# Altium footprint library emi_emc_ferrites.PcbLib: 3 footprints
Each footprint in its own frame and in the unit in brackets; x right, y up, seen from the top. Pads: shape width x height; smd on the part's side, far side on the other; paste and mask are expansions set on the pad; w line width, h text height; cw(c..) or ccw(c..) is an arc to the next point about the centre after c.
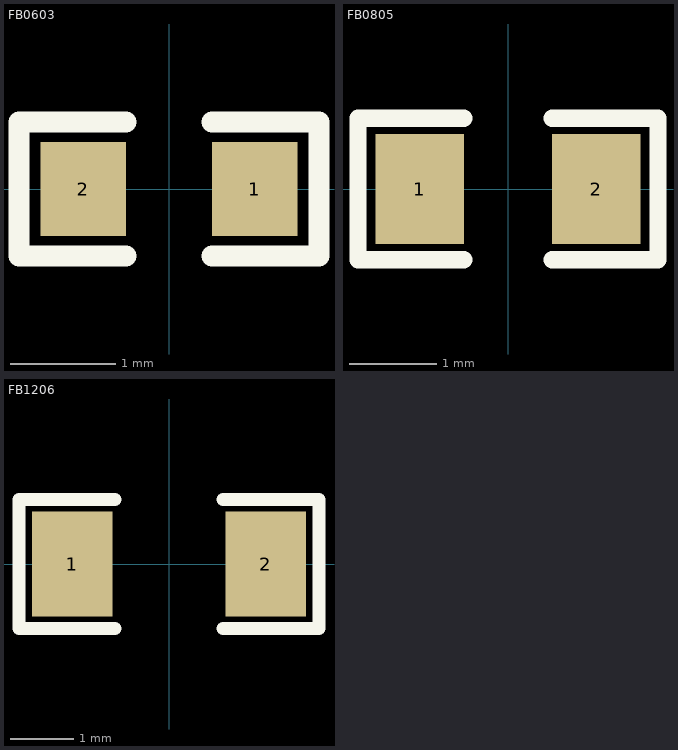
[diagram p0: the footprints below, top view; thin cyan lines are the x and y axes]

## FB0603 [mil]
pads (2):
  rect 32x35 smd: 1(32,0) 2(-32,0)
Top Overlay:
  lines w7.87: -16,-25 -56,-25 -56,25 -16,25 ; 16,-25 56,-25 56,25 16,25
3D body: height 35.43, standoff 0, extent -31.49,-15.74 31.5,15.76

## FB0805 [mil]
height 49.21
pads (2):
  rect 40x50 smd: 1(-40,0) 2(40,0)
Top Overlay:
  lines w7.87: -20,-32 -68,-32 -68,32 -20,32 ; 20,-32 68,-32 68,32 20,32
3D body: height 37.4, standoff 0, extent -39.36,-23.62 39.38,23.63

## FB1206 [mil]
height 86.61
pads (2):
  rect 50x65 smd: 1(-60,0) 2(60,0)
Top Overlay:
  lines w7.87: -33.46,-40 -93,-40 -93,40 -33.46,40 ; 33.46,-40 92.91,-40 92.91,40 33.46,40
3D body: height 43.31, standoff 0, extent -62.99,-31.49 63,31.51